# Altium footprint library 1_to_5_Pin.PcbLib: 133 footprints (part 6 of 9)
Each footprint in its own frame and in the unit in brackets; x right, y up, seen from the top. Pads: shape width x height; smd on the part's side, far side on the other; paste and mask are expansions set on the pad; w line width, h text height; cw(c..) or ccw(c..) is an arc to the next point about the centre after c.
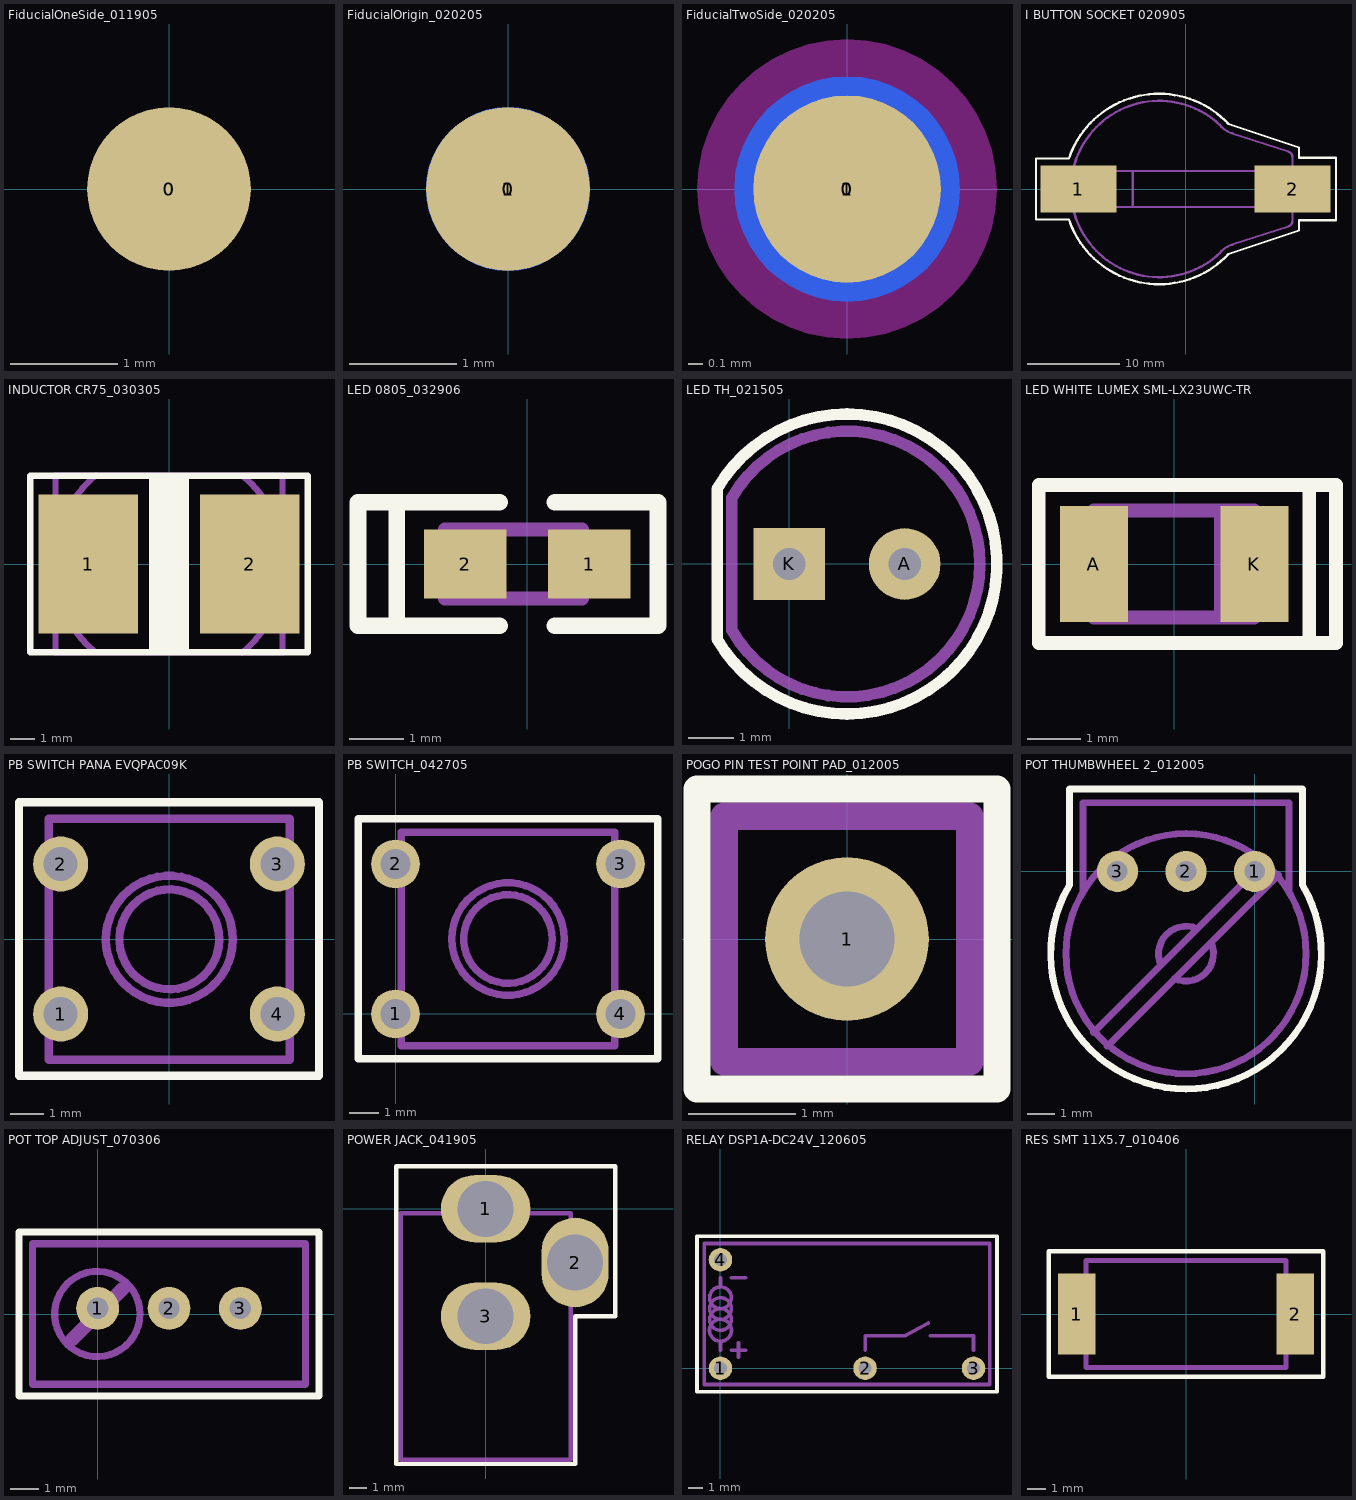
[diagram p5: the footprints below, top view; thin cyan lines are the x and y axes]

## FiducialOneSide_011905 [mil] "FEATURE SMT PCB"
pads (2):
  round 60 smd: 0(0,0)
  round 110 on Top Solder: 0(0,0)

## FiducialOrigin_020205 [mil] "FEATURE SMT PCB"
pads (4):
  round 60 smd: 0(0,0)
  round 60 smd far side paste+0 mask+0: 0(0,0)
  round 110 on Top Solder: 0(0,0)
  round 110 on Bottom Solder paste+0 mask+0: 1(0,0)

## FiducialTwoSide_020205 [mil] "FEATURE SMT PCB"
pads (5):
  round 50 smd: 0(0,0)
  round 60 smd far side paste+0 mask+0: 0(0,0)
  round 70 on Top Solder: 0(0,0)
  round 80 on Keep-Out: 0(0,0)
  round 80 on Bottom Solder paste+0 mask+0: 1(0,0)

## I BUTTON SOCKET 020905 [mm] "SMT"
height 11.938
pads (2):
  rect 8.2x5.1 smd: 1(-11.6,0) 2(11.6,0)
Top Overlay:
  lines w0.254: -16.192,-0.008 -16.192,-3.308 -12.624,-3.308 ccw(c-2.87,-0.024) 4.659,-7.041 12.3,-4.5 12.3,-3.4 16.3,-3.4 16.3,0 16.3,3.4 12.3,3.4 12.3,4.5 4.659,7.041 ccw(c-2.87,0.024) -12.624,3.308 -16.192,3.308 -16.192,0.008
Assembly Outline:
  lines w0.254: -12.4,-0.8 -9.4,-0.8 ; -12.4,0.8 -9.4,0.8 ; -5.7,-1.95 -5.7,1.95 ; 12,-0.8 11.582,-0.8 ; 12,0.8 11.582,0.8 ; -14.9,-1.6 -12.4,-1.6 ; -14.9,-1.6 -14.9,1.6 ; -14.9,-1.6 -12.4,-1.6 ; -14.9,-1.6 -14.9,1.6 ; -14.9,1.6 -12.4,1.6 ; -14.9,1.6 -12.4,1.6 ; -12.4,-1.6 -12.4,0 ; -12.4,-1.6 -12.4,0 ; -12.4,0 ccw(c-2.85,0) 3.7,-6.95 cw(c6,-8.85) 5.057,-6.02 11.15,-4.05 ccw(c10.95,-3.45) 11.582,-3.45 11.582,-0.8 ; -12.4,0 cw(c-2.85,0) 3.7,6.95 ccw(c6,8.85) 5.057,6.02 11.15,4.05 cw(c10.95,3.45) 11.582,3.45 11.582,0.8 ; -12.4,0 -12.4,1.6 ; -12.4,0 -12.4,1.6 ; -9.4,-0.8 -9.4,0 ; -9.4,-0.8 -9.4,-1.95 9.3,-1.95 9.3,-0.8 ; -9.4,0 -9.4,0.8 ; -9.4,0 -9.4,1.95 ; -9.4,0.8 -9.4,1.95 ; -9.4,1.95 9.3,1.95 9.3,0.8 ; 9.3,-0.8 11.582,-0.8 ; 9.3,-0.8 9.3,0 9.3,0.8 ; 9.3,0.8 11.582,0.8 ; 12,-1.6 14.5,-1.6 ; 12,-1.6 12,1.6 ; 12,-1.6 14.5,-1.6 ; 12,-1.6 12,1.6 ; 12,1.6 14.5,1.6 ; 12,1.6 14.5,1.6 ; 14.5,-1.6 14.5,0 ; 14.5,-1.6 14.5,0 ; 14.5,0 14.5,1.6 ; 14.5,0 14.5,1.6

## INDUCTOR CR75_030305 [mm] "SMT"
height 5.08
pads (2):
  rect 4x5.588 smd: 1(-3.25,0) 2(3.25,0)
Top Overlay:
  rectangle: -0.8,-3.556 0.8,3.556
  lines w0.254: -5.588,-3.556 -5.588,3.556 5.588,3.556 5.588,-3.556 -5.588,-3.556
Assembly Outline:
  lines w0.254: -3.016,-3.519 cw(c0,0) -4.572,-0.762 ; -2.942,3.582 ccw(c0,0) -4.572,0.762 ; 2.942,-3.582 ccw(c0,0) 4.572,-0.762 ; 3.016,3.519 cw(c0,0) 4.572,0.762 ; -4.572,-0.762 ccw(c-4.572,0) -4.572,0.762 ; -4.572,-0.762 -4.572,-3.556 4.572,-3.556 4.572,-0.762 ; -4.572,0.762 -4.572,3.556 4.572,3.556 4.572,0.762 ; 4.572,-0.762 cw(c4.572,0) 4.572,0.762
Assembly Designator:
  text ".Designator" at -4.064,-0.508 h1.02
Assembly Comment:
  text ".Comment" at -4.572,-4.953 h1.02

## LED 0805_032906 [mil] "SMT"
height 31.5
pads (2):
  rect 60x50 smd: 1(45,0) 2(-45,0)
Top Overlay:
  lines w12: -20,-45 -95,-45 ; -20,45 -95,45 ; 20,-45 95,-45 95,45 20,45 ; -95,-45 -95,45 ; -95,-45 -123.03,-45 -123.03,45 -95,45
Assembly Outline:
  lines w10: -40,-25 -40,25 ; -40,-25 40,-25 40,25 -40,25 ; -40,-25 -60.04,-25 -60.04,25 -40,25
Assembly Designator:
  text ".Designator" at -58.07,43.31 h40
Assembly Comment:
  text ".Comment" at -77.76,-85.63 h40

## LED TH_021505 [mil] "TH"
height 250
pads (2):
  round 62 hole 28: A(100,0)
  rect 62x62 hole 28: K(0,0)
Top Overlay:
  lines w10: -62.58,-65 ccw(c50,0) -62.58,65 -62.58,-65
Assembly Outline:
  lines w10: -49.69,-57.55 ccw(c50,0) -49.69,57.55 -49.69,-57.55
Assembly Designator:
  text ".Designator" at -10,-15 h40
Assembly Comment:
  text ".Comment" at -75,-165 h40

## LED WHITE LUMEX SML-LX23UWC-TR [mil] "SMT"
height 55.12
pads (2):
  rect 50x85 smd: A(-59.06,0) K(59.06,0)
Top Overlay:
  lines w10: 99.41,-58.07 119.09,-58.07 119.09,58.07 99.41,58.07 ; 99.41,-58.07 99.41,33.46 99.41,58.07 ; 99.41,-58.07 0,-58.07 -99.41,-58.07 -99.41,-33.46 -99.41,58.07 0,58.07 99.41,58.07
Assembly Outline:
  lines w10: 34.45,-39.37 34.45,39.37 59.06,39.37 ; 59.06,0 59.06,39.37 ; 59.06,39.37 -59.06,39.37 -59.06,-39.37 59.06,-39.37 59.06,39.37
Assembly Designator:
  text ".Designator" at -44.29,-19.68 h40
Assembly Comment:
  text ".Comment" at -92.52,-110.24 h40

## PB SWITCH PANA EVQPAC09K [mil] "TH"
height 374.02
pads (4):
  round 65 hole 40: 1(-127.95,-88.58) 2(-127.95,88.58) 3(127.95,88.58) 4(127.95,-88.58)
Top Overlay:
  lines w10: -177.17,-161.42 -177.17,0 -177.17,161.42 0,161.42 177.17,161.42 177.17,0 177.17,-161.42 0,-161.42 -177.17,-161.42
Assembly Outline:
  circle w10: c0.39,-0.39 r75
  circle w10: c0.39,-0.39 r59
  lines w10: -142.21,-142.79 142.79,-142.79 142.79,142.21 -142.21,142.21 -142.21,-142.79
Assembly Designator:
  text ".Designator" at -37.4,-19.68 h40
Assembly Comment:
  text ".Comment" at -124.02,-211.61 h40

## PB SWITCH_042705 [mil] "TH"
height 180
pads (4):
  round 65 hole 40: 1(0,0) 2(0,200) 3(300,200) 4(300,0)
Top Overlay:
  lines w10: -50,-60 -50,260 150,260 350,260 350,-60 -50,-60
Assembly Outline:
  circle w10: c150,100 r59
  circle w10: c150,100 r75
  lines w10: 7.39,-42.39 7.39,242.61 292.39,242.61 292.39,-42.39 7.39,-42.39
Assembly Designator:
  text ".Designator" at 110,80 h40
Assembly Comment:
  text ".Comment" at 35,-105 h40

## POGO PIN TEST POINT PAD_012005 [mil] "FEATURE SMT PCB"
pads (1):
  round 60 hole 35: 1(0,0)
Top Overlay:
  lines w10: -55,-55 55,-55 55,55 0,55 -55,55 -55,-55
Assembly Outline:
  lines w10: -45,-45 45,-45 45,45 0,45 -45,45 -45,-45
Assembly Designator:
  text ".Designator" at -40,55 h40
Assembly Comment:
  text ".Comment" at -65,-95 h40

## POT THUMBWHEEL 2_012005 [mil] "TH"
height 160
pads (3):
  round 60 hole 30: 1(0,0) 2(-100,0) 3(-200,0)
Top Overlay:
  lines w10: -269.99,-19.99 ccw(c-99.99,-119.99) 70.01,-19.99 70.01,120.01 20.01,120.01 -269.99,120.01 -269.99,-19.99
Assembly Outline:
  circle w10: c-100,-120 r175
  lines w10: -250,-30 -250,100 -100,100 50,100 50,-30 ; -234.99,-234.99 -99.99,-99.99 15.01,15.01 ; -214.99,-254.99 -99.99,-139.99 35.01,-4.99 ; -136.47,-136.41 cw(c-99.99,-119.99) -83.49,-83.56 ; -116.5,-156.43 ccw(c-99.99,-119.99) -63.48,-103.67
Assembly Designator:
  text ".Designator" at -160,-75 h40
Assembly Comment:
  text ".Comment" at -250,-140 h40

## POT TOP ADJUST_070306 [mil] "TH"
height 377.95
pads (3):
  round 60 hole 30: 1(0,7.87) 2(100,7.87) 3(200,7.87)
Top Overlay:
  lines w10: -110,-115 310,-115 310,60 310,115 100,115 -110,115 -110,60 -110,-115
Assembly Outline:
  circle w10: c-0.36,0 r59.69
  lines w10: -90.94,7.87 -90.94,98.43 ; -37.4,98.43 -90.94,98.43 ; 100,98.43 -90.94,98.43 ; -90.94,98.43 290.94,98.43 290.94,-98.43 -90.94,-98.43 -90.94,98.43
  lines w20: -35,-35 0,0 35,35
Assembly Designator:
  text ".Designator" at 50,-15 h40
Assembly Comment:
  text ".Comment" at -125,-175 h40

## POWER JACK_041905 [mil] "TH"
height 440
pads (3):
  oval 200x150 hole 125: 1(0,0) 3(0,-240)
  oval 150x200 hole 125: 2(200,-120)
Top Overlay:
  lines w10: -200,-570 200,-570 199.99,-240 289.99,-240 289.99,95 -200.01,95 -200,-570
Assembly Outline:
  lines w10: -190.01,-560 -190.01,-10 189.99,-10 189.99,-560 -190.01,-560
Assembly Designator:
  text ".Designator" at -60,-400 h40
Assembly Comment:
  text ".Comment" at -170,-530 h40

## RELAY DSP1A-DC24V_120605 [mil] "TH"
height 412
pads (4):
  round 65 hole 35: 1(0,0) 2(400,0) 3(700,0) 4(0,300)
Top Overlay:
  lines w10: -65,-65 715,-65 765,-65 765,365 -65,365 -65,-65
Assembly Outline:
  circle w10: c0,195 r30
  circle w10: c0,105 r30.41
  circle w10: c0,135 r30
  circle w10: c0,165 r30
  lines w10: -45,150 -45,-45 ; 0,50 0,75 ; 0,225 0,250 ; 30,50 70,50 ; 30,250 70,250 ; 49.8,29.92 49.8,69.92 ; 400,50 400,90 510,90 575,125 ; 580,90 700,90 700,50 ; -45,-45 745,-45 745,345 -45,345 -45,-45
Assembly Designator:
  text ".Designator" at 275,145 h40
Assembly Comment:
  text ".Comment" at 180,-115 h40

## RES SMT 11X5.7_010406 [mil] "SMT"
height 210
pads (2):
  rect 80x175 smd: 1(-235,0) 2(235,0)
Top Overlay:
  lines w10: -295,-135 0,-135 295,-135 295,0 295,135 0,135 -295,135 -295,0 -295,-135
Assembly Outline:
  lines w10: -215,-50 -235,-50 -235,0 -235,50 -215,50 ; 0,115 -215,115 ; 215,-50 235,-50 235,0 235,50 215,50 ; -215,115 -215,-115 215,-115 215,115 -215,115
Assembly Designator:
  text ".Designator" at -35,-15 h40
Assembly Comment:
  text ".Comment" at -180,-185 h40